# Altium footprint library LED.PcbLib: 34 footprints (part 2 of 3)
Each footprint in its own frame and in the unit in brackets; x right, y up, seen from the top. Pads: shape width x height; smd on the part's side, far side on the other; paste and mask are expansions set on the pad; w line width, h text height; cw(c..) or ccw(c..) is an arc to the next point about the centre after c.
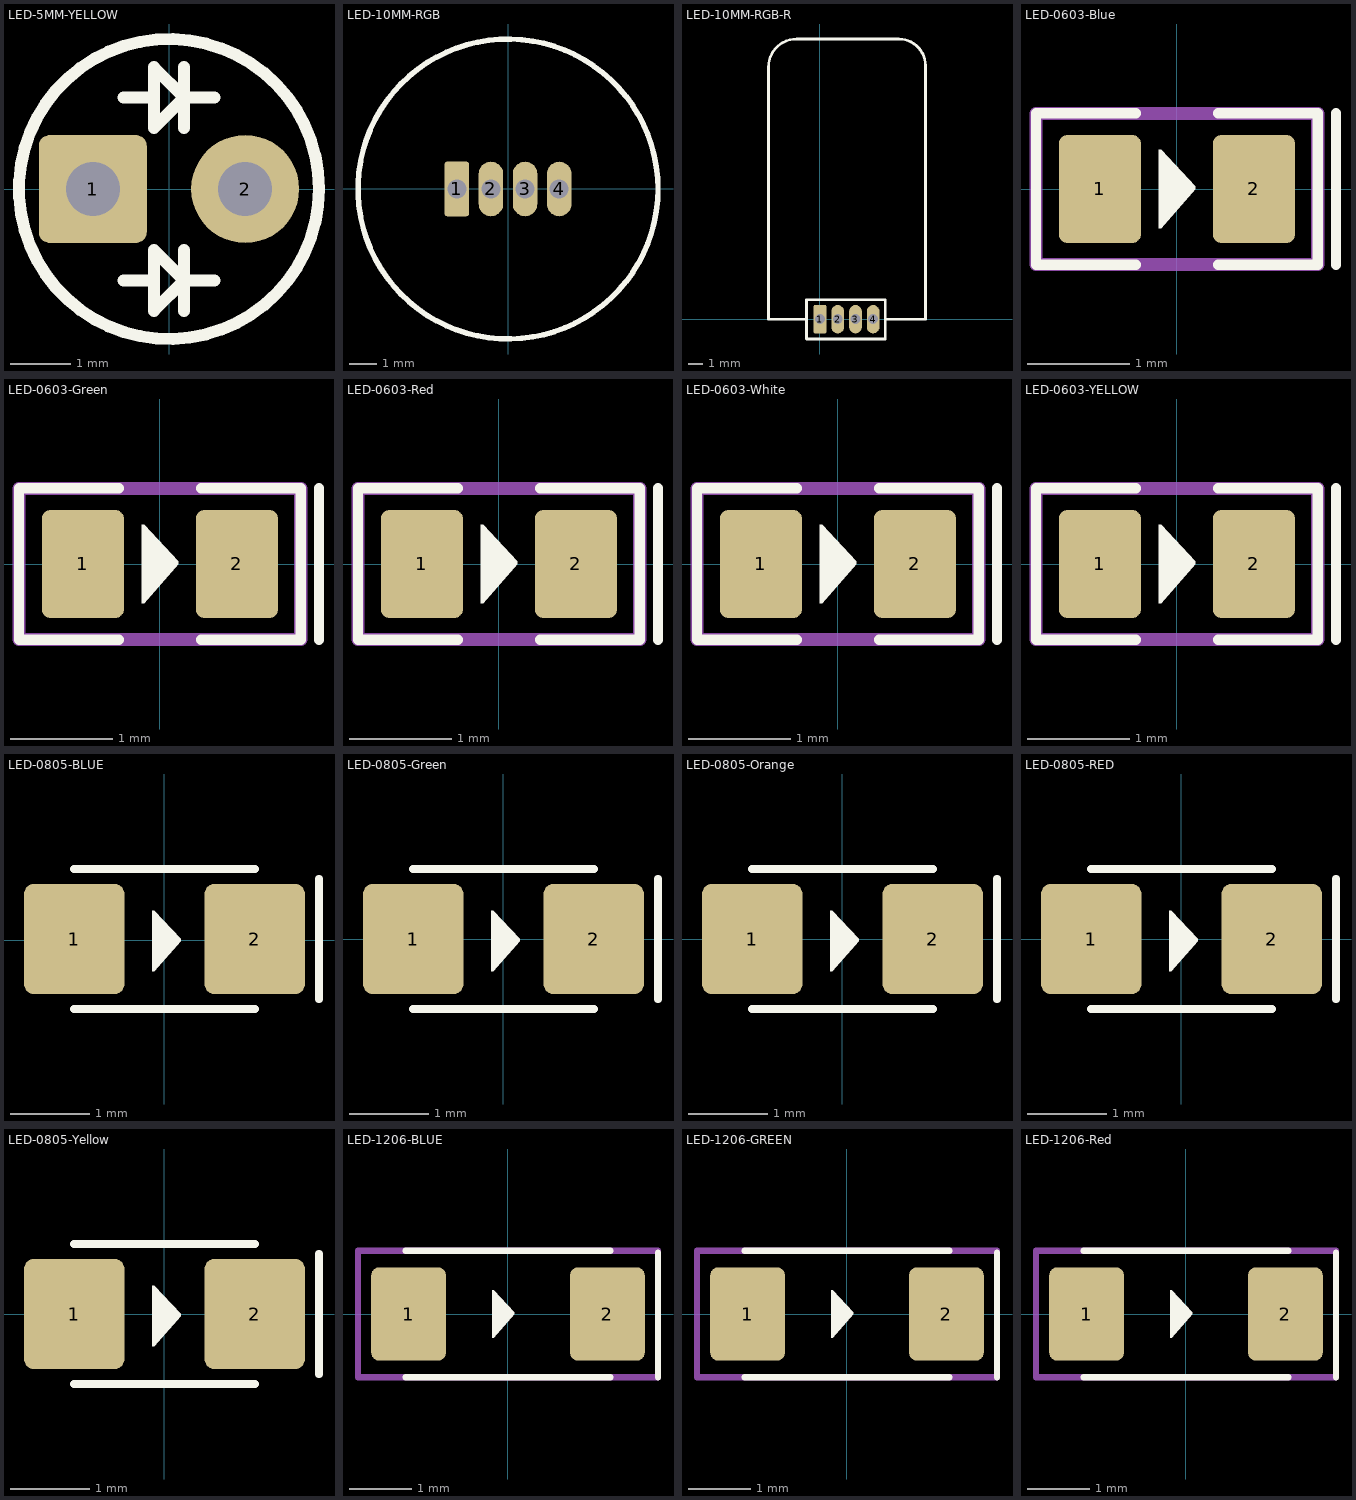
[diagram p1: the footprints below, top view; thin cyan lines are the x and y axes]

## LED-5MM-YELLOW [mm]
pads (2):
  rrect20% 1.8x1.8 hole 0.9: 1(-1.27,0)
  round 1.8 hole 0.9: 2(1.27,0)
Top Overlay:
  circle w0.2: c0,0 r2.5
  lines w0.2: -0.762,-1.524 -0.254,-1.524 ; -0.762,1.524 -0.254,1.524 ; 0.254,-2.032 0.254,-1.016 ; 0.254,1.016 0.254,2.032 ; 0.762,-1.524 0.254,-1.524 ; 0.762,1.524 0.254,1.524 ; 0.254,-1.524 -0.254,-1.016 -0.254,-2.032 0.254,-1.524 ; 0.254,1.524 -0.254,2.032 -0.254,1.016 0.254,1.524
3D body "LED D5 - Yellow_cutted.step": height 9.6, standoff -4.1, extent -2.95,-2.95 2.5,2.95

## LED-10MM-RGB [mm]
pads (4):
  rrect20% 0.9x2 hole 0.7: 1(-1.875,0)
  oval 0.9x2 hole 0.7: 2(-0.625,0) 3(0.625,0) 4(1.875,0)
Top Overlay:
  circle w0.2: c0,0 r5.5
3D body "LED 10mm Red.step": height 14.15, standoff -5.5, extent -5.5,-5.5 5.5,5.5

## LED-10MM-RGB-R [mm]
pads (4):
  rrect20% 0.9x2 hole 0.7: 1(0,0)
  oval 0.9x2 hole 0.7: 2(1.25,0) 3(2.5,0) 4(3.75,0)
Top Overlay:
  lines w0.2: -0.94,0 -3.632,0 -3.632,17.78 cw(c-1.651,17.78) -1.651,19.761 ; 4.597,0 7.442,0 7.442,17.882 ccw(c5.563,17.882) 5.563,19.761 ; -1.651,19.761 5.563,19.761 ; -1.651,19.761 5.563,19.761 ; -0.94,-1.397 -0.94,-0.051 -0.94,1.372 4.597,1.372 4.597,-1.397 -0.94,-1.397
3D body "Pin.SLDPRT": height 6.33, standoff -1.25, extent 3.42,-0.305 4.07,7.845
3D body "Pin.SLDPRT": height 6.33, standoff -1.25, extent 2.17,-0.305 2.82,7.845
3D body "Pin.SLDPRT": height 6.33, standoff -1.25, extent 0.92,-0.305 1.57,7.845
3D body "Pin.SLDPRT": height 6.33, standoff -1.25, extent -0.33,-0.305 0.32,7.845
3D body "LED 10mm Red.step": height 11.5, standoff 0.5, extent -3.609,0.132 7.391,19.782

## LED-0603-Blue [mm]
pads (2):
  rrect20% 0.8x1.05 smd: 1(-0.75,0) 2(0.75,0)
Top Overlay:
  region: -0.178,0.381 -0.152,0.381 0.178,0.025 0.178,0 -0.152,-0.381 -0.178,-0.381
  lines w0.1: -0.4,-0.737 -1.372,-0.737 -1.372,0.737 -0.4,0.737 ; 0.4,-0.737 1.372,-0.737 1.372,0.737 0.4,0.737 ; 1.549,-0.737 1.549,0.737
Mechanical 13:
  lines w0.127: -1.371,-0.736 -1.371,0.737 1.372,0.737 1.372,-0.736 -1.371,-0.736
3D body "SMD_0603LED_BLUE.STEP": height 0.9, standoff 0.02, extent -0.808,-0.5 0.808,0.5

## LED-0603-Green [mm]
pads (2):
  rrect20% 0.8x1.05 smd: 1(-0.75,0) 2(0.75,0)
Top Overlay:
  region: -0.178,0.381 -0.152,0.381 0.178,0.025 0.178,0 -0.152,-0.381 -0.178,-0.381
  lines w0.1: -0.4,-0.737 -1.372,-0.737 -1.372,0.737 -0.4,0.737 ; 0.4,-0.737 1.372,-0.737 1.372,0.737 0.4,0.737 ; 1.549,-0.737 1.549,0.737
Mechanical 13:
  lines w0.127: -1.371,-0.736 -1.371,0.737 1.372,0.737 1.372,-0.736 -1.371,-0.736
3D body "SMD_0603LED_GREEN.STEP": height 0.9, standoff 0.02, extent -0.808,-0.5 0.808,0.5

## LED-0603-Red [mm]
pads (2):
  rrect20% 0.8x1.05 smd: 1(-0.75,0) 2(0.75,0)
Top Overlay:
  region: -0.178,0.381 -0.152,0.381 0.178,0.025 0.178,0 -0.152,-0.381 -0.178,-0.381
  lines w0.1: -0.4,-0.737 -1.372,-0.737 -1.372,0.737 -0.4,0.737 ; 0.4,-0.737 1.372,-0.737 1.372,0.737 0.4,0.737 ; 1.549,-0.737 1.549,0.737
Mechanical 13:
  lines w0.127: -1.371,-0.736 1.372,-0.736 1.372,0.737 -1.371,0.737 -1.371,-0.736
3D body "SMD_0603LED_RED.STEP": height 0.9, standoff 0.02, extent -0.808,-0.5 0.808,0.5

## LED-0603-White [mm]
pads (2):
  rrect20% 0.8x1.05 smd: 1(-0.75,0) 2(0.75,0)
Top Overlay:
  region: -0.178,0.381 -0.152,0.381 0.178,0.025 0.178,0 -0.152,-0.381 -0.178,-0.381
  lines w0.1: -0.4,-0.737 -1.372,-0.737 -1.372,0.737 -0.4,0.737 ; 0.4,-0.737 1.372,-0.737 1.372,0.737 0.4,0.737 ; 1.549,-0.737 1.549,0.737
Mechanical 13:
  lines w0.127: -1.371,-0.736 1.372,-0.736 1.372,0.737 -1.371,0.737 -1.371,-0.736
3D body "LED SMD 0603.step": height 0.6, standoff 0, extent -0.8,-0.4 0.8,0.4

## LED-0603-YELLOW [mm]
pads (2):
  rrect20% 0.8x1.05 smd: 1(-0.75,0) 2(0.75,0)
Top Overlay:
  region: -0.178,0.381 -0.152,0.381 0.178,0.025 0.178,0 -0.152,-0.381 -0.178,-0.381
  lines w0.1: -0.4,-0.737 -1.372,-0.737 -1.372,0.737 -0.4,0.737 ; 0.4,-0.737 1.372,-0.737 1.372,0.737 0.4,0.737 ; 1.549,-0.737 1.549,0.737
Mechanical 13:
  lines w0.127: -1.371,-0.736 1.372,-0.736 1.372,0.737 -1.371,0.737 -1.371,-0.736
3D body "SMD_0603LED_YEL.STEP": height 0.9, standoff 0.02, extent -0.808,-0.5 0.808,0.5

## LED-0805-BLUE [mil]
pads (2):
  rrect20% 50x55 smd: 1(-45,0.5) 2(45,0.5)
Top Overlay:
  region: -6,14.5 -5,14.5 8,0.5 8,-0.5 -5,-15.5 -6,-15.5
  lines w3.94: 77,-29.5 77,30.5
  lines w4: -45,-34.5 45,-34.5 ; -45,35.5 45,35.5
3D body "User Library-led_0805-blue.step": height 43.31, standoff 0, extent -39.76,-24.1 39.77,25.11

## LED-0805-Green [mil]
pads (2):
  rrect20% 50x55 smd: 1(-45,0) 2(45,0)
Top Overlay:
  region: -6,14 -5,14 8,0 8,-1 -5,-16 -6,-16
  lines w3.94: 77,-30 77,30
  lines w4: -45,-35 45,-35 ; -45,35 45,35
3D body "User Library-led_0805-Green.step": height 43.31, standoff 0, extent -39.76,-24.6 39.77,24.61

## LED-0805-Orange [mil]
pads (2):
  rrect20% 50x55 smd: 1(-45,0) 2(45,0)
Top Overlay:
  region: -6,14 -5,14 8,0 8,-1 -5,-16 -6,-16
  lines w3.94: 77,-30 77,30
  lines w4: -45,-35 45,-35 ; -45,35 45,35
3D body "User Library-led_0805-orange.step": height 43.31, standoff 0, extent -39.76,-24.59 39.77,24.62

## LED-0805-RED [mil]
pads (2):
  rrect20% 50x55 smd: 1(-45,0) 2(45,0)
Top Overlay:
  region: -6,14 -5,14 8,0 8,-1 -5,-16 -6,-16
  lines w3.94: 77,-30 77,30
  lines w4: -45,-35 45,-35 ; -45,35 45,35
3D body "User Library-led_0805-red.step": height 43.31, standoff 0, extent -39.75,-24.6 39.77,24.62

## LED-0805-Yellow [mil]
pads (2):
  rrect20% 50x55 smd: 1(-45,0) 2(45,0)
Top Overlay:
  region: -6,14 -5,14 8,0 8,-1 -5,-16 -6,-16
  lines w3.94: 77,-30 77,30
  lines w4: -45,-35 45,-35 ; -45,35 45,35
3D body "User Library-led_0805-yellow.step": height 43.31, standoff 0, extent -39.75,-24.6 39.77,24.62

## LED-1206-BLUE [mm]
pads (2):
  rrect20% 1.2x1.5 smd: 1(-1.6,0) 2(1.6,0)
Top Overlay:
  region: -0.254,0.381 -0.229,0.381 0.102,0.025 0.102,0 -0.229,-0.381 -0.254,-0.381
  lines w0.1: -1.651,-1.016 1.651,-1.016 ; -1.651,1.016 1.651,1.016 ; 2.413,-1.016 2.413,0.984
Mechanical 13:
  lines w0.1: -2.413,-1.016 2.413,-1.016 2.413,1.016 -2.413,1.016 -2.413,-1.016
3D body "LED1206.STEP": height 1.1, standoff 0, extent -1.61,-0.762 1.61,0.838
3D body: height 1.15, standoff 0.5, extent -1.06,-0.7 1.04,0.76

## LED-1206-GREEN [mm]
pads (2):
  rrect20% 1.2x1.5 smd: 1(-1.6,0) 2(1.6,0)
Top Overlay:
  region: -0.254,0.381 -0.229,0.381 0.102,0.025 0.102,0 -0.229,-0.381 -0.254,-0.381
  lines w0.1: -1.651,-1.016 1.651,-1.016 ; -1.651,1.016 1.651,1.016 ; 2.413,-1.016 2.413,0.984
Mechanical 13:
  lines w0.1: -2.413,-1.016 2.413,-1.016 2.413,1.016 -2.413,1.016 -2.413,-1.016
3D body: height 1.15, standoff 0.5, extent -1.06,-0.7 1.04,0.76
3D body "LED1206.STEP": height 1.1, standoff 0, extent -1.61,-0.762 1.61,0.838

## LED-1206-Red [mm]
pads (2):
  rrect20% 1.2x1.5 smd: 1(-1.6,0) 2(1.6,0)
Top Overlay:
  region: -0.254,0.381 -0.229,0.381 0.102,0.025 0.102,0 -0.229,-0.381 -0.254,-0.381
  lines w0.1: -1.651,-1.016 1.651,-1.016 ; -1.651,1.016 1.651,1.016 ; 2.413,-1.016 2.413,0.984
Mechanical 13:
  lines w0.1: -2.413,-1.016 -2.413,1.016 2.413,1.016 2.413,-1.016 -2.413,-1.016
3D body "LED1206.STEP": height 1.1, standoff 0, extent -1.61,-0.8 1.61,0.8